# Altium footprint library thermal_relief.PcbLib: 1 footprints
Each footprint in its own frame and in the unit in brackets; x right, y up, seen from the top. Pads: shape width x height; smd on the part's side, far side on the other; paste and mask are expansions set on the pad; w line width, h text height; cw(c..) or ccw(c..) is an arc to the next point about the centre after c.
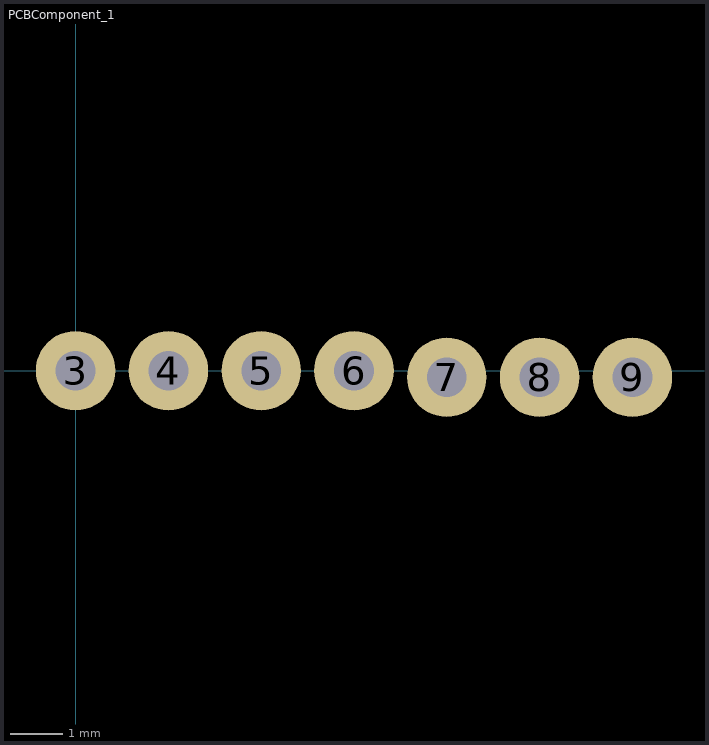
[diagram p0: the footprint, top view; thin cyan lines are the x and y axes]

## PCBComponent_1 [mil]
pads (7):
  round 60 hole 30 paste+15: 3(0,0)
  round 60 hole 30: 4(70,0) 5(140,0) 6(210,0) 7(280,-5) 8(350,-5) 9(420,-5)